# Altium schematic symbol library u-blox LARA.SchLib: 1 symbol
Pins are listed as number, name and electrical type; pins without a type are passive.

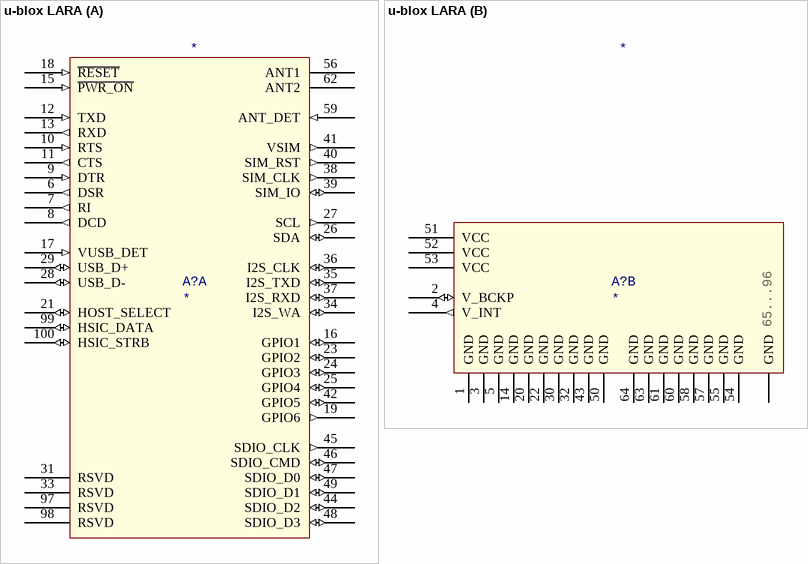
[diagram p0: symbol u-blox LARA]

## u-blox LARA
designator A?
Part Number: *
part A pins: 6 DSR (out), 7 RI (out), 8 DCD (out), 9 DTR (in), 10 RTS (in), 11 CTS (out), 12 TXD (in), 13 RXD (out), 15 ~{PWR_ON} (in), 16 GPIO1 (io), 17 VUSB_DET (in), 18 ~{RESET} (in), 19 GPIO6 (out), 21 HOST_SELECT (io), 23 GPIO2 (io), 24 GPIO3 (io), 25 GPIO4 (io), 26 SDA (io), 27 SCL (out), 28 USB_D- (io), 29 USB_D+ (io), 31 RSVD, 33 RSVD, 34 I2S_WA (io), 35 I2S_TXD (io), 36 I2S_CLK (io), 37 I2S_RXD (io), 38 SIM_CLK (out), 39 SIM_IO (io), 40 SIM_RST (out), 41 VSIM (out), 42 GPIO5 (io), 44 SDIO_D2 (io), 45 SDIO_CLK (out), 46 SDIO_CMD (io), 47 SDIO_D0 (io), 48 SDIO_D3 (io), 49 SDIO_D1 (io), 56 ANT1, 59 ANT_DET (in), 62 ANT2, 97 RSVD, 98 RSVD, 99 HSIC_DATA (io), 100 HSIC_STRB (io)
part B pins: 1 GND (power), 2 V_BCKP (io), 3 GND (power), 4 V_INT (out), 5 GND (power), 14 GND, 20 GND (power), 22 GND (power), 30 GND (power), 32 GND (power), 43 GND (power), 50 GND (power), 51 VCC (power), 52 VCC (power), 53 VCC (power), 54 GND (power), 55 GND (power), 57 GND (power), 58 GND (power), 60 GND (power), 61 GND (power), 63 GND (power), 64 GND (power), 65 GND, 66 GND, 67 GND, 68 GND, 69 GND, 70 GND, 71 GND, 72 GND, 73 GND, 74 GND, 75 GND, 76 GND, 77 GND, 78 GND, 79 GND, 80 GND, 81 GND, 82 GND, 83 GND, 84 GND, 85 GND, 86 GND, 87 GND, 88 GND, 89 GND, 90 GND, 91 GND, 92 GND, 93 GND, 94 GND, 95 GND, 96 GND
part B text: 65...96